# EAGLE library part STM32F407VE (library xnemo)
STM32F407VE 32-bit ARM Cortex M4 Microcontroller
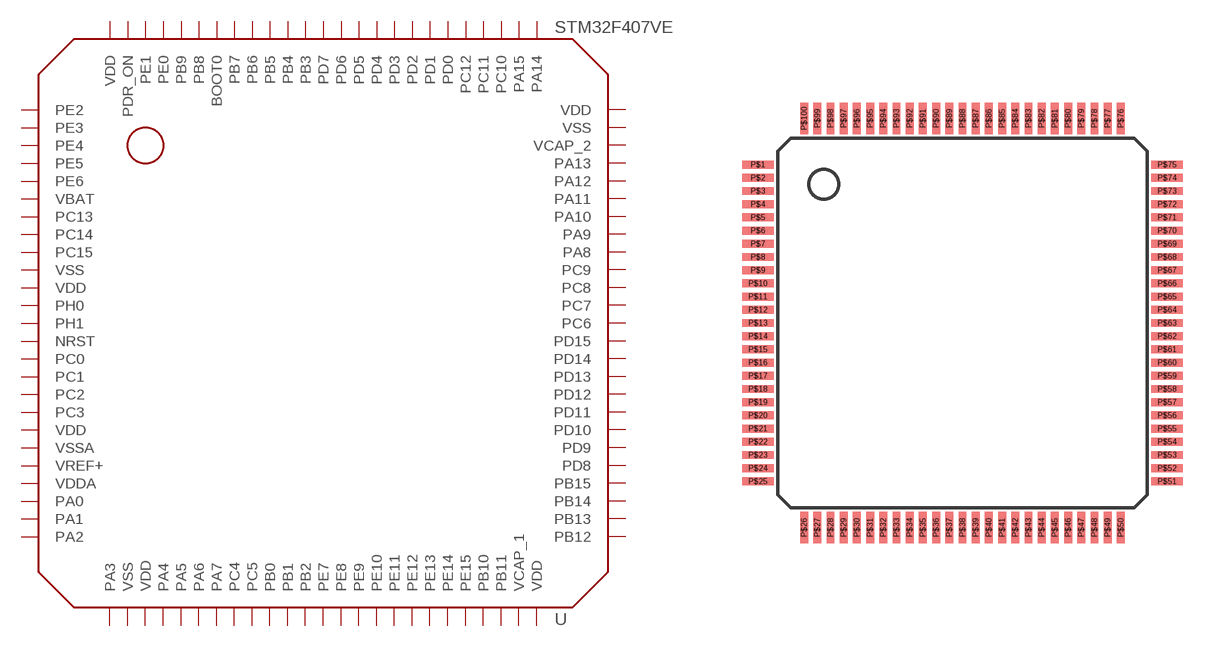
[diagram p9: symbol with the pads of ST_LQFP100; footprint ST_LQFP100]

Designator prefix U

## STM32F407VE  [ST_LQFP100]
P$1  PE2
P$2  PE3
P$3  PE4
P$4  PE5
P$5  PE6
P$6  VBAT
P$7  PC13
P$8  PC14
P$9  PC15
P$10  VSS
P$11  VDD
P$12  PH0
P$13  PH1
P$14  NRST
P$15  PC0
P$16  PC1
P$17  PC2
P$18  PC3
P$19  VDD
P$20  VSSA
P$21  VREF+
P$22  VDDA
P$23  PA0
P$24  PA1
P$25  PA2
P$26  PA3
P$27  VSS
P$28  VDD
P$29  PA4
P$30  PA5
P$31  PA6
P$32  PA7
P$33  PC4
P$34  PC5
P$35  PB0
P$36  PB1
P$37  PB2
P$38  PE7
P$39  PE8
P$40  PE9
P$41  PE10
P$42  PE11
P$43  PE12
P$44  PE13
P$45  PE14
P$46  PE15
P$47  PB10
P$48  PB11
P$49  VCAP_1
P$50  VDD
P$51  PB12
P$52  PB13
P$53  PB14
P$54  PB15
P$55  PD8
P$56  PD9
P$57  PD10
P$58  PD11
P$59  PD12
P$60  PD13
P$61  PD14
P$62  PD15
P$63  PC6
P$64  PC7
P$65  PC8
P$66  PC9
P$67  PA8
P$68  PA9
P$69  PA10
P$70  PA11
P$71  PA12
P$72  PA13
P$73  VCAP_2
P$74  VSS
P$75  VDD
P$76  PA14
P$77  PA15
P$78  PC10
P$79  PC11
P$80  PC12
P$81  PD0
P$82  PD1
P$83  PD2
P$84  PD3
P$85  PD4
P$86  PD5
P$87  PD6
P$88  PD7
P$89  PB3
P$90  PB4
P$91  PB5
P$92  PB6
P$93  PB7
P$94  BOOT0
P$95  PB8
P$96  PB9
P$97  PE0
P$98  PE1
P$99  PDR_ON
P$100  VDD

## Footprint ST_LQFP100 (pad centres in mm)
smd 1.2 x 0.3: P$1 -7.75,6; P$2 -7.75,5.5; P$3 -7.75,5; P$4 -7.75,4.5; P$5 -7.75,4; P$6 -7.75,3.5; P$7 -7.75,3; P$8 -7.75,2.5; P$9 -7.75,2; P$10 -7.75,1.5; P$11 -7.75,1; P$12 -7.75,0.5; P$13 -7.75,0; P$14 -7.75,-0.5; P$15 -7.75,-1; P$16 -7.75,-1.5; P$17 -7.75,-2; P$18 -7.75,-2.5; P$19 -7.75,-3; P$20 -7.75,-3.5; P$21 -7.75,-4; P$22 -7.75,-4.5; P$23 -7.75,-5; P$24 -7.75,-5.5; P$25 -7.75,-6; P$51 7.75,-6; P$52 7.75,-5.5; P$53 7.75,-5; P$54 7.75,-4.5; P$55 7.75,-4; P$56 7.75,-3.5; P$57 7.75,-3; P$58 7.75,-2.5; P$59 7.75,-2; P$60 7.75,-1.5; P$61 7.75,-1; P$62 7.75,-0.5; P$63 7.75,0; P$64 7.75,0.5; P$65 7.75,1; P$66 7.75,1.5; P$67 7.75,2; P$68 7.75,2.5; P$69 7.75,3; P$70 7.75,3.5; P$71 7.75,4; P$72 7.75,4.5; P$73 7.75,5; P$74 7.75,5.5; P$75 7.75,6
smd 0.3 x 1.2: P$26 -6,-7.75; P$27 -5.5,-7.75; P$28 -5,-7.75; P$29 -4.5,-7.75; P$30 -4,-7.75; P$31 -3.5,-7.75; P$32 -3,-7.75; P$33 -2.5,-7.75; P$34 -2,-7.75; P$35 -1.5,-7.75; P$36 -1,-7.75; P$37 -0.5,-7.75; P$38 0,-7.75; P$39 0.5,-7.75; P$40 1,-7.75; P$41 1.5,-7.75; P$42 2,-7.75; P$43 2.5,-7.75; P$44 3,-7.75; P$45 3.5,-7.75; P$46 4,-7.75; P$47 4.5,-7.75; P$48 5,-7.75; P$49 5.5,-7.75; P$50 6,-7.75; P$76 6,7.75; P$77 5.5,7.75; P$78 5,7.75; P$79 4.5,7.75; P$80 4,7.75; P$81 3.5,7.75; P$82 3,7.75; P$83 2.5,7.75; P$84 2,7.75; P$85 1.5,7.75; P$86 1,7.75; P$87 0.5,7.75; P$88 0,7.75; P$89 -0.5,7.75; P$90 -1,7.75; P$91 -1.5,7.75; P$92 -2,7.75; P$93 -2.5,7.75; P$94 -3,7.75; P$95 -3.5,7.75; P$96 -4,7.75; P$97 -4.5,7.75; P$98 -5,7.75; P$99 -5.5,7.75; P$100 -6,7.75